# Altium schematic symbol library Coper.SchLib: 37 symbols
Pins are listed as number, name and electrical type; pins without a type are passive.

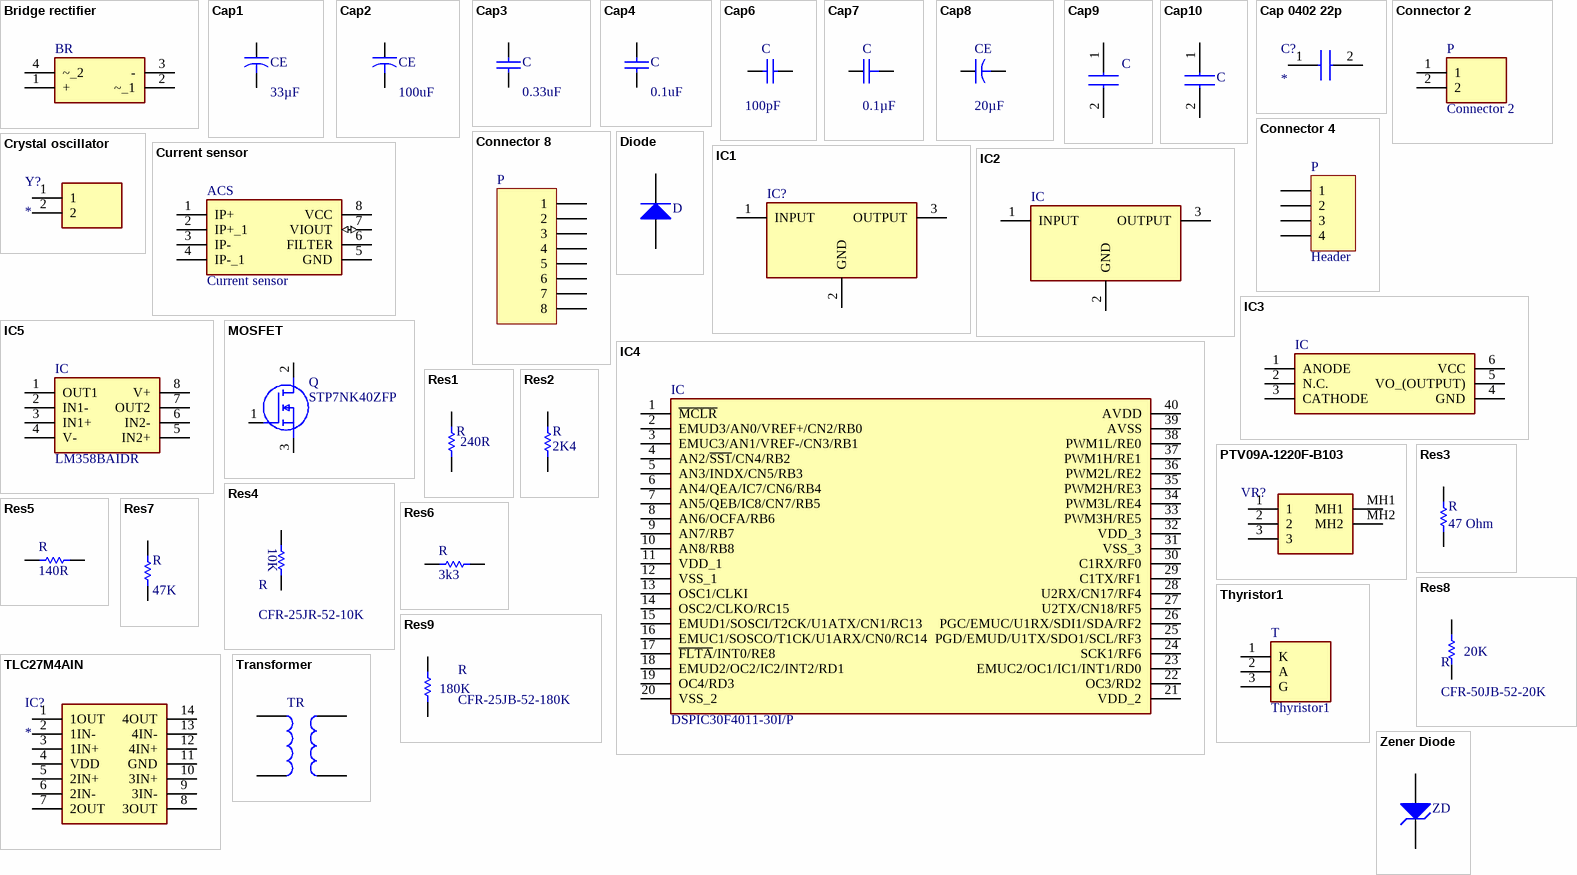
[diagram p0: symbols Bridge rectifier to Zener Diode]

## Bridge rectifier
designator BR, comment W04G-E4/51GI-ND  (value not drawn)
1 Phase, 400V, 1.5A; Detailed Description: Bridge Rectifier Single Phase Standard 400V Through Hole WOG; Datasheet link: http://www.vishay.com/docs/88769/woo5g.pdf; Digi-Key Part Number: W04G-E4/51GI-ND; Manufacturer Part Number: W04G-E4/51
footprint BRIGE RECTIFIER (Max dia = 0.81mm)
pins: 1 +, 2 ~_1, 3 -, 4 ~_2

## Cap1
designator CE, comment value 33µF  (hidden comment: 399-6575-ND)
ALU 33uF, 35V; Manufacturer: KEMET; Manufacturer Part Number: ESH336M035AC3AA; Detailed Description: 33µF 35V Aluminum Electrolytic Capacitors Radial, Can  2000 Hrs @ 105°C; Digi-Key Part Number: 399-6575-ND; Datasheet: https://content.kemet.com/datasheets/KEM_A4005_ESH.pdf
footprint CAP1 33uF, 35V (Thru-Hole;)
pins: 1, 2

## Cap2
designator CE, comment value 100uF  (hidden comment: 399-6104-ND)
ALU 100uF, 35V; Manufacturer: KEMET; Manufacturer Part Number: ESK107M035AE3AA; Digi-Key Part Number: 399-6104-ND; Datasheet link: https://api.kemet.com/component-edge/download/specsheet/ESK107M035AE3AA.pdf
footprint CAP2 100uF, 35V (Thru-Hole;)
pins: 1, 2

## Cap3
designator C, comment value 0.33uF  (hidden comment: 1C20Z5U334M050B-ND)  (graphical)
CER 0.33uF, 50V; Manufacturer: Vishay BC Components; Digi-Key Part Number: 1C20Z5U334M050B-ND; Datasheet Link: https://media.digikey.com/pdf/Data%20Sheets/BC%20Components%20PDFs/1C-9C_Series_Rev_Sep_2015.pdf; Manufacturer Part Number: 1C20Z5U334M050B
footprint CAP3, 0.33uF, 50V (Thru-Hole;)
pins: 1, 2

## Cap4
designator C, comment value 0.1uF  (hidden comment: BC1160TR-ND)
CER 0.1uF, 50V; Manufacturer: Vishay BC Components; Manufacturer Part Number: K104Z15Y5VF5TL2; Detailed Description: 0.1µF -20%, +80% 50V Ceramic Capacitor Y5V (F) Radial; Digi-Key Part Number: BC1160TR-ND; Datasheet: http://www.vishay.com/docs/45171/kseries.pdf
footprint CAP4, 0.1uF, 50V (Radial Cap, Thru-Hole; 2 Leads; 0.3 in Pin Spacing)
pins: 1, 2

## Cap6
designator C, comment value 100pF  (hidden comment: BC5223TB-ND)
CER, 100pF, 50V; Manufacturer: Vishay BC Components; Manufacturer Part Number: K101J10C0GF5UH5; Detailed Description: 100pF ±5% 50V Ceramic Capacitor C0G, NP0 Radial; Digi-Key Part Number: BC5223TB-ND; Datasheets: http://www.vishay.com/docs/45171/kseries.pdf
footprint CAP6, 100pF, 50V
pins: 1, 2

## Cap7
designator C, comment value 0.1µF  (hidden comment: Vishay BC BC1101TR-ND)
CER 0.1uF, 50V; Manufacturer: Vishay BC Components; Manufacturer Part Number: K104K15X7RF5TH5; Detailed Description: 0.1µF ±10% 50V Ceramic Capacitor X7R Radial; Digi-Key Part Number: BC1101TR-ND; Datasheet: http://www.vishay.com/docs/49363/49363_vmn-pt9161.pdf
footprint CAPR5-4X5 (Capacitor; 2 Leads)
simulation model CAP (Capacitor)
signal-integrity model Cap
pins: 1, 2

## Cap8
designator CE, comment value 20µF  (hidden comment: TE1157-E3-ND)
ALU 20uF, 16V; Manufacturer: Vishay Sprague; Detailed Description: 20µF 16V Aluminum Electrolytic Capacitors Axial, Can  2000 Hrs @ 85°C; Digi-Key Part Number: TE1157-E3-ND; Manufacturer Part Number: TE1157-E3; Datasheet: http://www.vishay.com/docs/42042/te.pdf
footprint CAP8, 20uF, 16V (Thru-Hole;)
pins: 1, 2

## Cap9
designator C, comment C1206Y102K9RAC7800  (value not drawn)
CER 1000pF, 6.3V; Manufacturer_Name: Kemet; Manufacturer_Part_Number: C1206Y102K9RACTU; Detailed description: Multilayer Ceramic Capacitors MLCC - SMD/SMT 6.3V 1000pF X7R 1206 10%; Datasheet Link: https://content.kemet.com/datasheets/KEM_C1015_X7R_FF-CAP_SMD.pdf; Mouser Part Number: 80-C1206Y102K9R
footprint CAP9, 1000pF, 6.3V
pins: 1, 2

## Cap10
designator C, comment C0805C104K9RACTU  (value not drawn)
CER 0.1uF, 6.3V; Manufacturer_Name: Kemet; Datasheet Link: https://content.kemet.com/datasheets/KEM_C1002_X7R_SMD.pdf; Height: 0.88mm; Manufacturer_Part_Number: C0805C104K9RACTU; Arrow Part Number: C0805C104K9RACTU; Arrow Price/Stock: https://www.arrow.com/en/products/c0805c104k9ractu/kemet-corporation; Mouser Part Number: 80-C0805C104K9R; Mouser Price/Stock: https://www.mouser.co.uk/ProductDetail/KEMET/C0805C104K9RACTU?qs=jbCUrP3sAgRYLjBU7s5h8Q%3D%3D
footprint CAP10, 0.1uF, 6.4V
pins: 1, 2

## Cap 0402 22p
designator C?
Capacitor; Manufacturer: Yageo; Manufacturer code: CC0402KRNPO9BN220; Datasheet: https://www.yageo.com/upload/media/product/productsearch/datasheet/mlcc/UPY-GP_NP0_16V-to-50V_18.pdf; Distributor code: 311-3781-1-ND; Distributor: Digi-key
footprint CAPC1005X56N
pins: 1, 2

## Connector 2
designator P
Connector, 2 pin; Manufacturer: TE Connectivity AMP Connectors; Manufacturer Part Number: 282836-2; Detailed Description: 2 Position Wire to Board Terminal Block Horizontal with Board 0.197" (5.00mm) Through Hole; Digi-Key Part Number: A98076-ND; Datasheet link: https://www.te.com/commerce/DocumentDelivery/DDEController?Action=srchrtrv&DocNm=1308389_EUROSTYLE_TERMINAL_BLOCKS&DocType=CS&DocLang=English
footprint SHDR2W100P0X500_1X2_1000X820X1020P
pins: 1, 2

## Connector 4
designator P, comment Header
Header, 4-Pin; Manufacturer: TE Connectivity AMP Connectors; Manufacturer Part Number: 3-282836-2; Detailed Description: 4 Position Wire to Board Terminal Block Horizontal with Board 0.197" (5.00mm) Through Hole; Digi-Key Part Number: A136029-ND; Datasheet link: https://www.te.com/commerce/DocumentDelivery/DDEController?Action=srchrtrv&DocNm=282836&DocType=Customer+Drawing&DocLang=English
footprint HEADER 4 PIN
pins: 1, 2, 3, 4

## Connector 8
designator P
Header, 8-Pin; Manufacturer: Phoenix Contact; Manufacturer Part Number: 1727078; Detailed Description: 8 Position Wire to Board Terminal Block Horizontal with Board 0.150" (3.81mm) Through Hole; Digi-Key Part Number: 277-1953-ND; Datasheet link: https://media.digikey.com/pdf/Data%20Sheets/Phoenix%20Contact%20PDFs/1727078.pdf
footprint HEADER 8 PIN
pins: 1, 2, 3, 4, 5, 6, 7, 8

## Crystal oscillator
designator Y?
CRYSTAL 7.3728MHZ 18PF T/H; Manufacturer: ECS Inc.; Manufacturer code: ECS-73-18-4XEN; Datasheet: https://ecsxtal.com/store/pdf/hc-49usx.pdf; Distributor code: XC1740-ND; Distributor: Digi-Key
footprint HC-49-4H
pins: 1, 2

## Current sensor
designator ACS
ACS712ELCTR-05B-T; Manufacturer_Name: Allegro Microsystems; Allied_Number: R1076681; Datasheet Link: http://docs-emea.rs-online.com/webdocs/0d88/0900766b80d885f5.pdf; Height: 1.75mm; Manufacturer_Part_Number: ACS712ELCTR-05B-T; RS Part Number: 6807131P; RS Price/Stock: http://uk.rs-online.com/web/p/products/6807131P; Allied Price/Stock: http://www.alliedelec.com/allegro-microsystems-acs712elctr-05b-t/R1076681/
footprint SOIC127P600X175-8N
pins: 1 IP+, 2 IP+_1, 3 IP-, 4 IP-_1, 5 GND (power), 6 FILTER, 7 VIOUT (io), 8 VCC (power)

## Diode
designator D, comment 1N4007FSCT-ND  (value not drawn)
1000V, 1A; Manufacturer: ON Semiconductor; Manufacturer Part Number: 1N4007; Detailed Description: Diode Standard 1000V 1A Through Hole DO-204AL (DO-41); Digi-Key Part Number: 1N4007FSCT-ND; Datasheet link: https://www.onsemi.com/pub/Collateral/1N4001-D.PDF
footprint DIODE, 1000V, 1A (Through Hole)
pins: 1 A, 2 K

## IC1
designator IC?, comment LM7805ACT  (value not drawn)
LM7805ACT, 1A; Manufacturer_Name: ON Semiconductor; Datasheet Link: https://componentsearchengine.com/Datasheets/2/LM7805ACT.pdf; Height: 4.7mm; Manufacturer_Part_Number: LM7805ACT; Mouser Part Number: 512-LM7805ACT; Mouser Price/Stock: https://www.mouser.com/Search/Refine.aspx?Keyword=512-LM7805ACT; RS Part Number: 8062839; RS Price/Stock: http://uk.rs-online.com/web/p/products/8062839
footprint LM7805ACT, 1A
pins: 1 INPUT, 2 GND, 3 OUTPUT

## IC2
designator IC, comment LM7815ACT  (value not drawn)
IC REG LINEAR 15V 1A TO220-3; Manufacturer_Name: ON Semiconductor; Datasheet Link: https://media.digikey.com/pdf/Data%20Sheets/ON%20Semiconductor%20PDFs/MC7800(A,AE),NCV7800.pdf; Manufacturer_Part_Number: LM7815ACT
footprint LM7812ACT, 1A
pins: 1 INPUT, 2 GND, 3 OUTPUT

## IC3
designator IC, comment TLP701H(TP,F)  (value not drawn)
OPTOISO, 600mA, 10V ~ 30V; Manufacturer: Toshiba Semiconductor and Storage; Detailed Description: Logic Output Optoisolator  Push-Pull, Totem Pole 5000Vrms 1 Channel 20kV/µs CMTI 6-SO; Datasheet Link: https://eu.mouser.com/datasheet/2/408/TLP701H_datasheet_en_20151223-1135480.pdf; Manufacturer Part Number: TLP701H(TP,F)
footprint OPTOISO, 30V, 60mA
pins: 1 ANODE, 2 N.C., 3 CATHODE, 4 GND, 5 VO_(OUTPUT), 6 VCC

## IC4
designator IC, comment DSPIC30F4011-30I/P
Manufacturer_Name: Microchip; Allied_Number: 70045352; Datasheet Link: https://componentsearchengine.com/Datasheets/5/DSPIC30F4011-30I_P.pdf; Height: 6.35mm; Manufacturer_Part_Number: DSPIC30F4011-30I/P; Mouser Part Number: 579-30F4011-30I/P; Mouser Price/Stock: https://www.mouser.com/Search/Refine.aspx?Keyword=579-30F4011-30I%2FP; RS Part Number: 6229954P; RS Price/Stock: http://uk.rs-online.com/web/p/products/6229954P; Allied Price/Stock: https://www.alliedelec.com/microchiptechnologyinc-dspic30f4011-30i-p/70045352/
footprint DIP1543W58P254L5175H635Q40N
pins: 1 ~{MCLR}, 2 EMUD3/AN0/VREF+/CN2/RB0, 3 EMUC3/AN1/VREF-/CN3/RB1, 4 AN2/~{SS1}/CN4/RB2, 5 AN3/INDX/CN5/RB3, 6 AN4/QEA/IC7/CN6/RB4, 7 AN5/QEB/IC8/CN7/RB5, 8 AN6/OCFA/RB6, 9 AN7/RB7, 10 AN8/RB8, 11 VDD_1, 12 VSS_1, 13 OSC1/CLKI, 14 OSC2/CLKO/RC15, 15 EMUD1/SOSCI/T2CK/U1ATX/CN1/RC13, 16 EMUC1/SOSCO/T1CK/U1ARX/CN0/RC14, 17 ~{FLTA}/INT0/RE8, 18 EMUD2/OC2/IC2/INT2/RD1, 19 OC4/RD3, 20 VSS_2, 21 VDD_2, 22 OC3/RD2, 23 EMUC2/OC1/IC1/INT1/RD0, 24 SCK1/RF6, 25 PGD/EMUD/U1TX/SDO1/SCL/RF3, 26 PGC/EMUC/U1RX/SDI1/SDA/RF2, 27 U2TX/CN18/RF5, 28 U2RX/CN17/RF4, 29 C1TX/RF1, 30 C1RX/RF0, 31 VSS_3, 32 VDD_3, 33 PWM3H/RE5, 34 PWM3L/RE4, 35 PWM2H/RE3, 36 PWM2L/RE2, 37 PWM1H/RE1, 38 PWM1L/RE0, 39 AVSS, 40 AVDD

## IC5
designator IC, comment LM358BAIDR
LM358BAIDR, OP AMP; Manufacturer_Name: Texas Instruments; Datasheet Link: https://www.ti.com/lit/gpn/LM358BA; Height: 1.75mm; Manufacturer_Part_Number: LM358BAIDR; Arrow Part Number: LM358BAIDR; Arrow Price/Stock: https://www.arrow.com/en/products/lm358baidr/texas-instruments; Mouser Part Number: 595-LM358BAIDR; Mouser Price/Stock: https://www.mouser.co.uk/ProductDetail/Texas-Instruments/LM358BAIDR?qs=Cb2nCFKsA8q09dK1DPRIKg%3D%3D
footprint SOIC127P600X175-8N
pins: 1 OUT1, 2 IN1-, 3 IN1+, 4 V-, 5 IN2+, 6 IN2-, 7 OUT2, 8 V+

## MOSFET
designator Q, comment STP7NK40ZFP
MOSFET (N-Channel); Manufacturer_Name: STMicroelectronics; Allied_Number: 70547873; Datasheet Link: http://www.st.com/web/en/resource/technical/document/datasheet/CD00003040.pdf; Height: 4.6mm; Manufacturer_Part_Number: STP7NK40ZFP; Mouser Part Number: 511-STP7NK40ZFP; Mouser Price/Stock: https://www.mouser.com/Search/Refine.aspx?Keyword=511-STP7NK40ZFP; RS Part Number: 8107418; RS Price/Stock: https://uk.rs-online.com/web/p/products/8107418; Allied Price/Stock: http://www.alliedelec.com/stmicroelectronics-stp7nk40zfp/70547873/
footprint MOSFET 400V, 5.4A
pins: 1 G, 2 D, 3 S

## PTV09A-1220F-B103
designator VR?  (value not drawn)
Variable Resistor; Manufacturer: CTS Electrocomponents; Manufacturer Code: 296UD103B1N; Ordering Code: CT2265-ND; Datasheet: https://www.ctscorp.com/wp-content/uploads/296.pdf; Distributor: Digi-Key
footprint PTV09A1220FB103
pins: 1, 2, 3, MH1, MH2

## Res1
designator R, comment value 240R  (hidden comment: 270QBK-ND)
240 Ohm, 0.25W; Manufacturer: Yageo; Manufacturer Part Number: CFR-25JB-52-270R; Detailed Description: 240 Ohms ±5% 0.25W, 1/4W Through Hole Resistor Axial  Carbon Film; Digi-Key Part Number: 270QBK-ND; Datasheet link: https://www.yageo.com/upload/media/product/products/datasheet/lr/Yageo_LR_CFR_1.pdf
footprint RES1, 240R, 0.25W
pins: 1, 2

## Res2
designator R, comment value 2K4  (hidden comment: 270QBK-ND)
2K4, 0.25W
footprint RES2, 2K4, 0.25W
pins: 1, 2

## Res3
designator R, comment value 47 Ohm  (hidden comment: 47QBK-ND)
47 Ohm, 0.25W; Manufacturer: Yageo; Manufacturer Part Number: CFR-25JB-52-47R; Detailed Description: 47 Ohms ±5% 0.25W, 1/4W Through Hole Resistor Axial  Carbon Film; Digi-Key Part Number: 47QBK-ND; Datasheet link: https://www.yageo.com/upload/media/product/products/datasheet/lr/Yageo_LR_CFR_1.pdf
footprint RES3, 47R, 0.25W
pins: 1, 2

## Res4
designator R, comment CFR-25JR-52-10K
10K, 0,25W; Manufacturer_Name: YAGEO (PHYCOMP); Datasheet Link: https://componentsearchengine.com/Datasheets/1/CFR-25JR-52-10K.pdf; Manufacturer_Part_Number: CFR-25JR-52-10K; Arrow Part Number: CFR-25JR-52-10K; Arrow Price/Stock: https://www.arrow.com/en/products/cfr-25jr-52-10k/yageo; Mouser Part Number: 603-CFR-25JR-5210K; Mouser Price/Stock: https://www.mouser.com/Search/Refine.aspx?Keyword=603-CFR-25JR-5210K
footprint RES4, 10K, 0.25W
pins: 1, 2
text: 10K

## Res5
designator R, comment value 140R  (hidden comment: 140XBK-ND)
140 Ohm, 0.25W; Manufacturer: Yageo; Manufacturer Part Number: MFR-25FBF52-140R; Detailed Description: 1 kOhms ±5% 0.25W, 1/4W Through Hole Resistor Axial  Carbon Film; Digi-Key Part Number: 140XBK-ND; Datasheet link: https://www.yageo.com/upload/media/product/products/datasheet/lr/Yageo_LR_CFR_1.pdf
footprint RES5, 140R, 0.25W
pins: 1, 2

## Res6
designator R, comment value 3k3  (hidden comment: CFR-25JR-52-3K3)
3K3 Ohm, 0.25W; Manufacturer: Yageo; Detailed Description: 3.3 kOhms ±5% 0.25W, 1/4W Through Hole Resistor Axial  Carbon Film; Digi-Key Part Number: 13-CFR-25JR-52-3K3CT-ND; Manufacturer Part Number: CFR-25JR-52-3K3
footprint RES6, 3K3, 0.25W
pins: 1, 2

## Res7
designator R, comment value 47K  (hidden comment: 47KQTR-ND)
47 KOhm, 0.25W; Manufacturer: Yageo; Manufacturer Part Number: CFR-25JR-52-47K; Detailed Description: 47 kOhms ±5% 0.25W, 1/4W Through Hole Resistor Axial  Carbon Film; Digi-Key Part Number: 47KQTR-ND; Datasheet link: https://www.yageo.com/upload/media/product/products/datasheet/lr/Yageo_LR_CFR_1.pdf
footprint RES7, 47K, 0.25W
pins: 1, 2

## Res8
designator R, comment CFR-50JB-52-20K
20KOhm, 0.5W; Manufacturer_Name: YAGEO (PHYCOMP); Datasheet Link: http://www.yageo.com/documents/recent/Yageo%20LR_CFR_2013.pdf; Manufacturer_Part_Number: CFR-50JB-52-20K; Arrow Part Number: CFR-50JB-52-20K; Arrow Price/Stock: https://www.arrow.com/en/products/cfr-50jb-52-20k/yageo; Mouser Part Number: 603-CFR-50JB-52-20K; Mouser Price/Stock: https://www.mouser.co.uk/ProductDetail/Yageo/CFR-50JB-52-20K?qs=oypCK0zG326PKPIoPcSOTg%3D%3D
footprint RES8, 20K, 0.25W
pins: 1, 2
text: 20K

## Res9
designator R, comment CFR-25JB-52-180K
180K, 025W; Manufacturer_Name: Yageo; Detailed Description: 180 kOhms ±5% 0.25W, 1/4W Through Hole Resistor Axial  Carbon Film; Datasheet Link: https://www.yageo.com/upload/media/product/products/datasheet/lr/Yageo_LR_CFR_1.pdf; Manufacturer_Part_Number: CFR-25JB-52-180K; Digi-Key Part Number: 180KQBK-ND
footprint RES9, 180K, 0.25W
pins: 1, 2
text: 180K

## Thyristor1
designator T
SCR, 400V, 8A; Manufacturer: STMicroelectronics; Manufacturer Part Number: TXN408GRG; Detailed Description: SCR 400V 8A Standard Recovery Through Hole TO-220AB; Digi-Key Part Number: 497-4480-5-ND; Datasheets: https://media.digikey.com/pdf/Data%20Sheets/ST%20Microelectronics%20PDFS/TXN,TYN%20058-1008%20G.pdf
footprint THYRISTOR 400V, 8A
pins: 1 K, 2 A, 3 G

## TLC27M4AIN
designator IC?
Integrated Circuit; Manufacturer_Name: Texas Instruments; Manufacturer_Part_Number: TLC27M4AIN; Datasheet Link: http://www.ti.com/lit/gpn/tlc27m4a; Arrow Part Number: TLC27M4AIN; Mouser Part Number: 595-TLC27M4AIN; Mouser Price/Stock: https://www.mouser.com/Search/Refine.aspx?Keyword=595-TLC27M4AIN
footprint 4xOPAMP_DIP254P762X508-14
pins: 1 1OUT, 2 1IN-, 3 1IN+, 4 VDD, 5 2IN+, 6 2IN-, 7 2OUT, 8 3OUT, 9 3IN-, 10 3IN+, 11 GND, 12 4IN+, 13 4IN-, 14 4OUT

## Transformer
designator TR, comment 230-20V  (value not drawn)
Trafomatic, 230/20V, 0.25A, 4 secondary winding; Manufacturer: Trafomatic; Distributor: Trafomatic
footprint TRANS (Transformer; 4 Leads)
simulation model TRANSFORMER (Transformer)
pins: 1 L, 2, 3, 4

## Zener Diode
designator ZD, comment BZX55C12-TAPGICT-ND  (value not drawn)
12V, 200mA, 500mW; Manufacturer: Vishay Semiconductor Diodes Division; Detailed Description: Zener Diode 12V 500mW  Through Hole DO-35; Digi-Key Part Number: BZX55C12-TAPGICT-ND; Manufacturer Part Number: BZX55C12-TAP; Datasheets: http://www.vishay.com/docs/85604/bzx55.pdf
footprint ZENER DIODE, 12V, 200mA, 500mW
pins: 1 A, 2 K